# Altium footprint library 10144041-04011LF.PcbLib: 1 footprints
Each footprint in its own frame and in the unit in brackets; x right, y up, seen from the top. Pads: shape width x height; smd on the part's side, far side on the other; paste and mask are expansions set on the pad; w line width, h text height; cw(c..) or ccw(c..) is an arc to the next point about the centre after c.
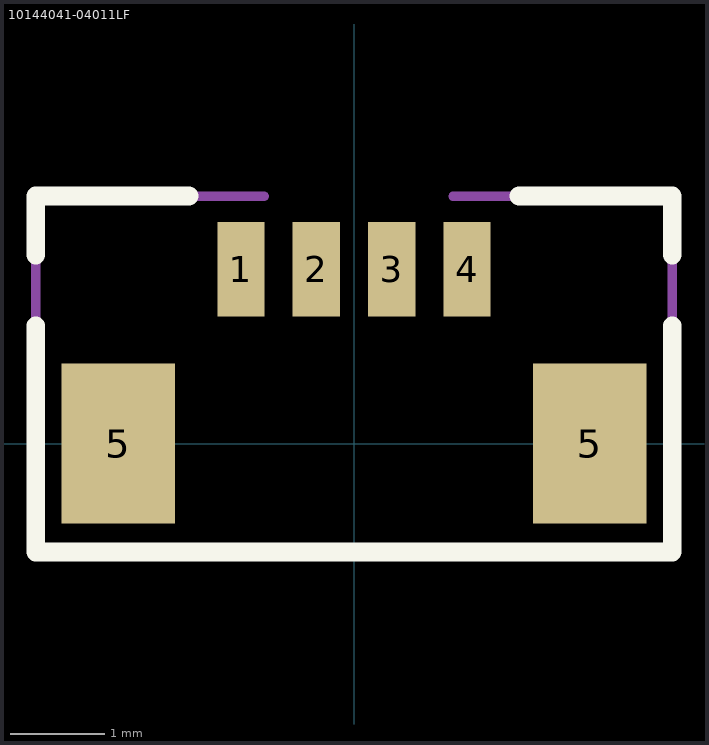
[diagram p0: the footprint, top view; thin cyan lines are the x and y axes]

## 10144041-04011LF [mm] "10144041-04011LF"
pads (6):
  rect 0.5x1 smd: 1(-1.2,1.85) 2(-0.4,1.85) 3(0.4,1.85) 4(1.2,1.85)
  rect 1.2x1.7 smd: 5(-2.5,0) 5(2.5,0)
Top Overlay:
  lines w0.2: -3.375,1.25 -3.375,-1.15 3.025,-1.15 ; -3.375,2 -3.375,2.625 -1.75,2.625 ; 1.75,2.625 3.375,2.625 3.375,2 ; 3.375,1.25 3.375,-1.15 3.025,-1.15 ; 3.025,-1.15 3.025,-1.15
Top Assembly:
  lines w0.1: -0.95,2.625 -3.375,2.625 -3.375,-1.125 3.375,-1.125 3.375,2.625 1.05,2.625
  text "'.Designator'" at -0.625,-0.075 h0.7
3D body "10144041-04.stp": height 1.72, standoff -0.03, extent -2.7,-0.65 2.7,2.05